# Altium footprint library PCB - LEADED - SOT353-1_N.PcbLib: 1 footprints
Each footprint in its own frame and in the unit in brackets; x right, y up, seen from the top. Pads: shape width x height; smd on the part's side, far side on the other; paste and mask are expansions set on the pad; w line width, h text height; cw(c..) or ccw(c..) is an arc to the next point about the centre after c.
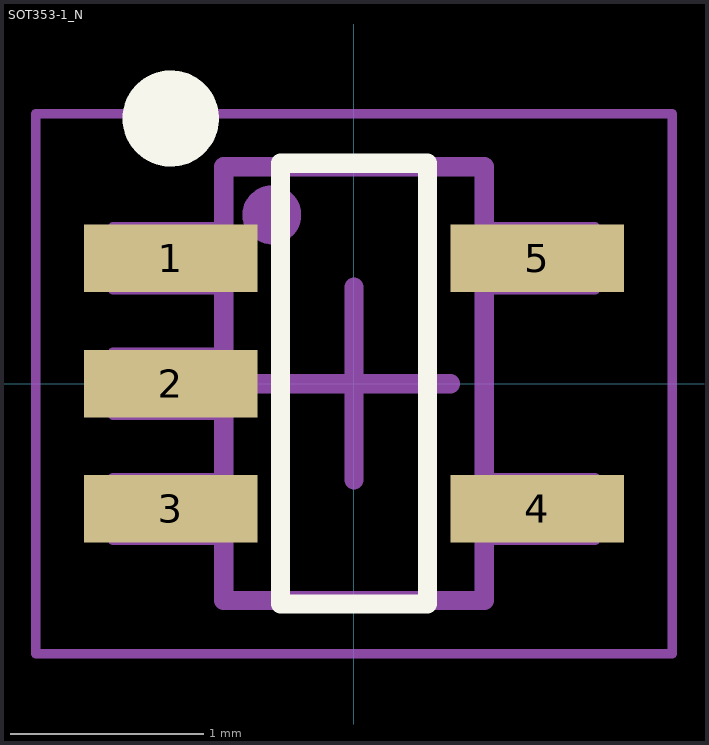
[diagram p0: the footprint, top view; thin cyan lines are the x and y axes]

## SOT353-1_N [mm]
pads (5):
  rect 0.9x0.35 smd: 1(-0.95,0.65) 2(-0.95,0) 3(-0.95,-0.65) 4(0.95,-0.65) 5(0.95,0.65)
Top Overlay:
  circle w0.25: c-0.95,1.375 r0.125
  lines w0.1: -0.381,-1.143 0.381,-1.143 0.381,1.143 -0.381,1.143 -0.381,-1.143
  text ".Designator" at -1.27,1.933 h1.5
Top Assembly:
  circle w0.152: c-0.426,0.875 r0.076
  lines w0.05: -0.675,-0.812 -1.25,-0.812 -1.25,-0.488 -0.675,-0.488 ; -0.675,-0.162 -1.25,-0.162 -1.25,0.162 -0.675,0.162 ; -0.675,0.487 -1.25,0.487 -1.25,0.813 -0.675,0.813 ; 0.675,-0.812 1.25,-0.812 1.25,-0.488 0.675,-0.488 ; 0.675,0.487 1.25,0.487 1.25,0.813 0.675,0.813
  lines w0.1: -0.675,-1.125 -0.675,1.125 0.675,1.125 0.675,-1.125 -0.675,-1.125
  text ".Designator" at 0.254,-0.889 h1
Top Courtyard:
  lines w0.05: -1.65,-1.4 -1.65,1.4 1.65,1.4 1.65,-1.4 -1.65,-1.4
Top Component Center (Mech11):
  lines w0.1: -0.5,0 0.5,0 ; 0,-0.5 0,0.5
3D body: height 1.1, standoff 0, extent -0.675,-1.125 0.675,1.125